# Altium footprint library halfgelijders.PcbLib: 22 footprints (part 1 of 2)
Each footprint in its own frame and in the unit in brackets; x right, y up, seen from the top. Pads: shape width x height; smd on the part's side, far side on the other; paste and mask are expansions set on the pad; w line width, h text height; cw(c..) or ccw(c..) is an arc to the next point about the centre after c.
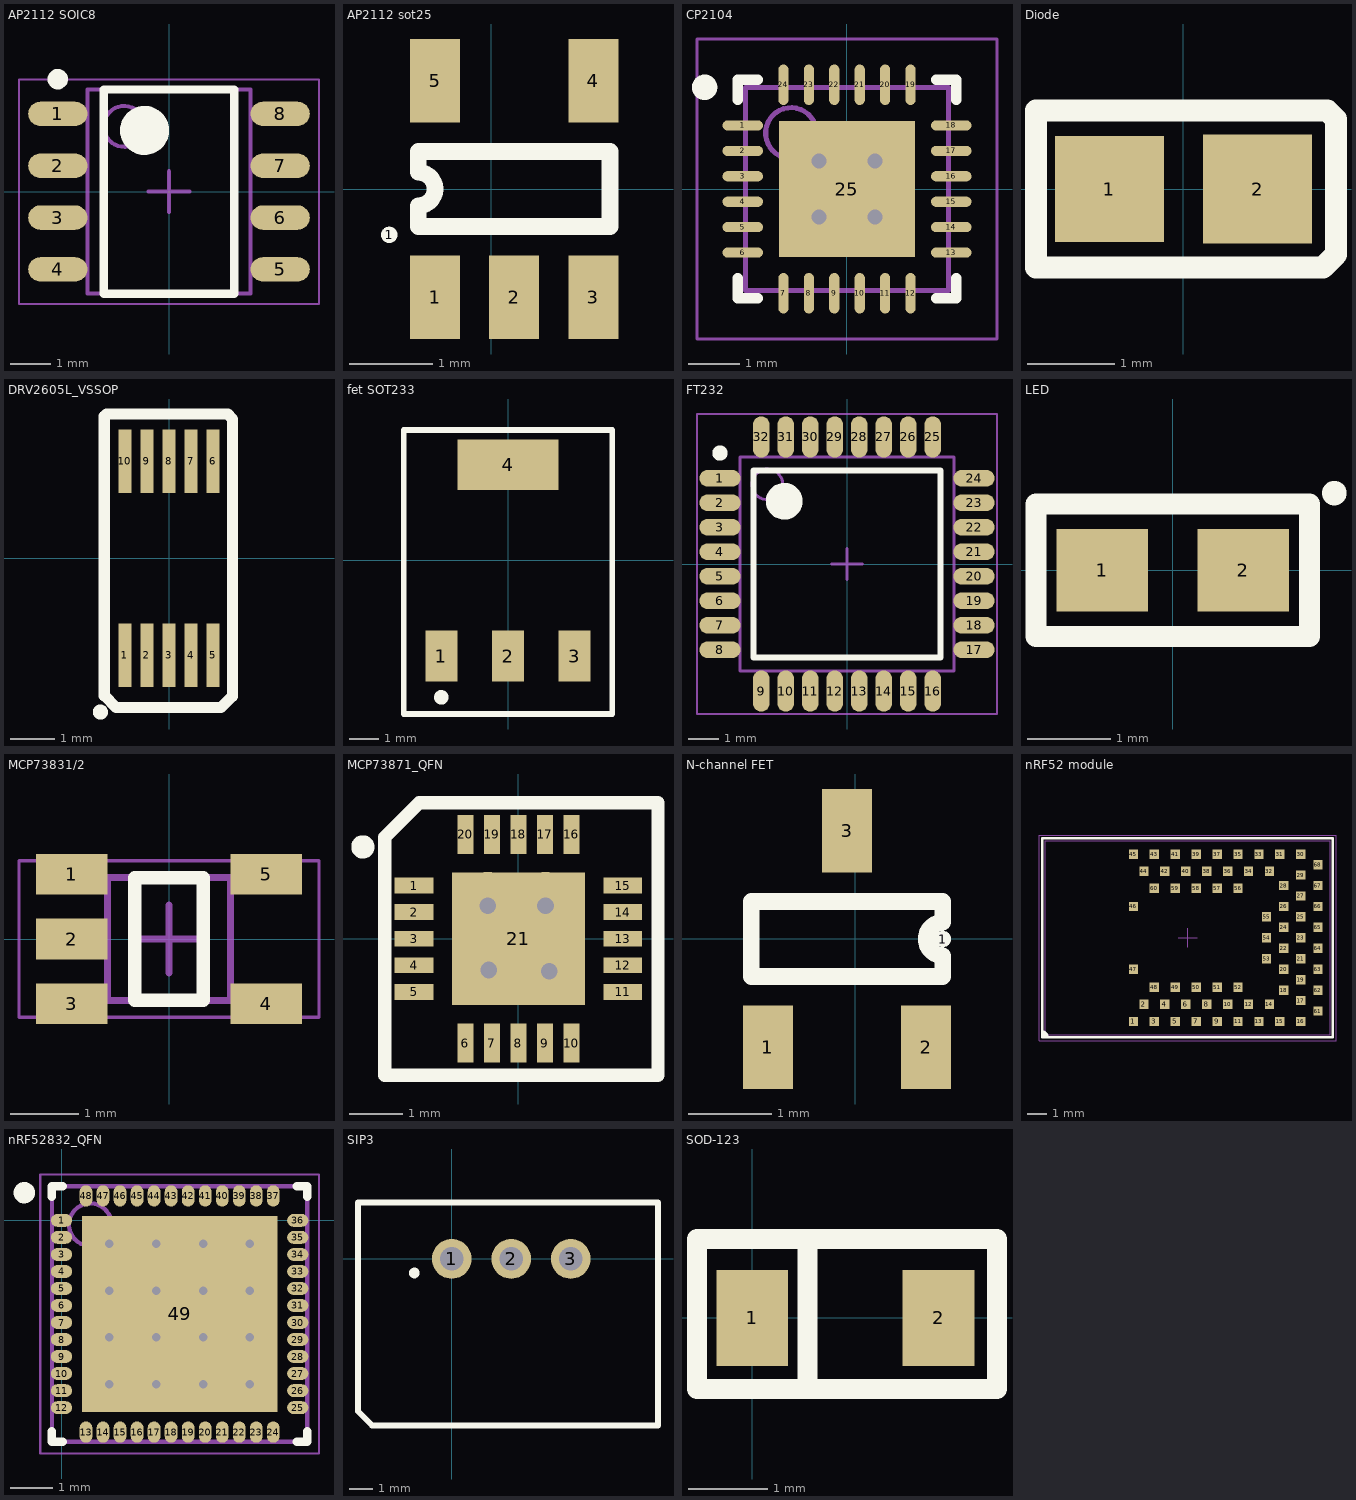
[diagram p0: the footprints below, top view; thin cyan lines are the x and y axes]

## AP2112 SOIC8 [mm] "AP2112 SOIC8"
height 1.5
pads (8):
  oval 1.45x0.6 smd: 1(-2.725,1.905) 2(-2.725,0.635) 3(-2.725,-0.635) 4(-2.725,-1.905) 5(2.725,-1.905) 6(2.725,-0.635) 7(2.725,0.635) 8(2.725,1.905)
Top Overlay:
  circle w0.6: c-0.6,1.5 r0.3
  circle w0.25: c-2.725,2.755 r0.125
  lines w0.2: -1.6,-2.5 1.6,-2.5 1.6,2.5 -1.6,2.5 -1.6,-2.5
Mechanical 13:
  circle w0.1: c-1.1,1.6 r0.5
  lines w0.1: -2,-2.5 2,-2.5 2,2.5 -2,2.5 -2,-2.5
Mechanical 15:
  lines w0.05: -3.675,-2.75 3.675,-2.75 3.675,2.75 -3.675,2.75 -3.675,-2.75
  lines w0.1: -0.5,0 0.5,0 ; 0,-0.5 0,0.5
3D body "SOIC8.SLDPRT": height 1.75, standoff -0.01, extent -3.219,-2.52 2.98,2.48

## AP2112 sot25 [mm]
pads (6):
  round 0.2 on Top Overlay: 1(-1.225,-0.55)
  rect 0.6x1 smd: 1(-0.675,-1.3) 2(0.275,-1.3) 3(1.225,-1.3) 4(1.225,1.3) 5(-0.675,1.3)
Top Overlay:
  lines w0.2: -0.875,-0.45 -0.875,-0.2 ccw(c-0.875,0) -0.875,0.2 -0.875,0.45 1.425,0.45 1.425,-0.45 -0.875,-0.45
3D body "SOT235.step": height 1, standoff 0, extent -1.185,-1.17 1.735,1.17

## CP2104 [mm] "QFN24"
pads (25):
  oval 0.8x0.2 smd: 1(-2.05,1.25) 2(-2.05,0.75) 3(-2.05,0.25) 4(-2.05,-0.25) 5(-2.05,-0.75) 6(-2.05,-1.25) 13(2.05,-1.25) 14(2.05,-0.75) 15(2.05,-0.25) 16(2.05,0.25) 17(2.05,0.75) 18(2.05,1.25)
  oval 0.2x0.8 smd: 7(-1.25,-2.05) 8(-0.75,-2.05) 9(-0.25,-2.05) 10(0.25,-2.05) 11(0.75,-2.05) 12(1.25,-2.05) 19(1.25,2.05) 20(0.75,2.05) 21(0.25,2.05) 22(-0.25,2.05) 23(-0.75,2.05) 24(-1.25,2.05)
  rect 2.68x2.68 smd: 25(0,0)
via 0.55,-0.55 diameter 0.6 hole 0.3
via -0.55,-0.55 diameter 0.6 hole 0.3
via 0.55,0.55 diameter 0.6 hole 0.3
via -0.55,0.55 diameter 0.6 hole 0.3
Top Overlay:
  circle w0.25: c-2.8,2 r0.125
  lines w0.2: -2.15,-1.75 -2.15,-2.15 -1.75,-2.15 ; -2.15,1.75 -2.15,2.15 -1.75,2.15 ; 1.75,-2.15 2.15,-2.15 2.15,-1.75 ; 1.75,2.15 2.15,2.15 2.15,1.75
Mechanical 13:
  circle w0.1: c-1.1,1.1 r0.5
  lines w0.1: -2,-2 2,-2 2,2 -2,2 -2,-2
Mechanical 15:
  lines w0.05: -2.95,-2.95 2.95,-2.95 2.95,2.95 -2.95,2.95 -2.95,-2.95
  lines w0.1: -0.5,0 0.5,0 ; 0,-0.5 0,0.5
3D body "QFN-24 .step": height 1, standoff 0, extent -1.98,-1.99 2.02,2.01

## Diode [mm]
pads (2):
  rect 1.25x1.22 smd: 1(-0.85,0)
  rect 1.25x1.25 smd: 2(0.85,0)
Top Overlay:
  lines w0.254: -1.69,-0.9 1.6,-0.9 1.75,-0.75 1.75,0.8 1.65,0.9 -1.69,0.9 -1.69,-0.9

## DRV2605L_VSSOP [mm] "VSSOP"
pads (10):
  rect 0.3x1.45 smd: 1(-1,-2.2) 2(-0.5,-2.2) 3(0,-2.2) 4(0.5,-2.2) 5(1,-2.2) 6(1,2.2) 7(0.5,2.2) 8(0,2.2) 9(-0.5,2.2) 10(-1,2.2)
Top Overlay:
  circle w0.254: c-1.558,-3.489 r0.045
  lines w0.254: -1.468,-3.119 -1.468,-2.629 -1.468,3.221 -1.418,3.271 1.332,3.271 1.442,3.161 1.442,-3.129 1.182,-3.389 -1.198,-3.389 -1.468,-3.119
3D body "User Library-DGS0010A.STEP": height 1.1, standoff 0, extent -1.488,-2.351 1.512,2.574

## fet SOT233 [mm]
pads (4):
  rect 1.1x1.75 smd: 1(-2.3,-3.3) 2(0,-3.3) 3(2.3,-3.3)
  rect 3.5x1.75 smd: 4(0,3.3)
Top Overlay:
  circle w0.25: c-2.3,-4.725 r0.125
  lines w0.2: -3.6,-5.3 3.6,-5.3 3.6,4.5 -3.6,4.5 -3.6,-5.3
3D body "SOT-223-2.STEP": height 1.85, standoff -0.05, extent -3.35,-3.704 3.35,3.5

## FT232 [mm]
pads (32):
  oval 1.35x0.55 smd: 1(-4.15,2.8) 2(-4.15,2) 3(-4.15,1.2) 4(-4.15,0.4) 5(-4.15,-0.4) 6(-4.15,-1.2) 7(-4.15,-2) 8(-4.15,-2.8) 17(4.15,-2.8) 18(4.15,-2) 19(4.15,-1.2) 20(4.15,-0.4) 21(4.15,0.4) 22(4.15,1.2) 23(4.15,2) 24(4.15,2.8)
  oval 0.55x1.35 smd: 9(-2.8,-4.15) 10(-2,-4.15) 11(-1.2,-4.15) 12(-0.4,-4.15) 13(0.4,-4.15) 14(1.2,-4.15) 15(2,-4.15) 16(2.8,-4.15) 25(2.8,4.15) 26(2,4.15) 27(1.2,4.15) 28(0.4,4.15) 29(-0.4,4.15) 30(-1.2,4.15) 31(-2,4.15) 32(-2.8,4.15)
Top Overlay:
  circle w0.25: c-4.15,3.625 r0.125
  circle w0.6: c-2.05,2.05 r0.3
  lines w0.2: -3.05,-3.05 -3.05,3.05 3.05,3.05 3.05,-3.05 -3.05,-3.05
Mechanical 13:
  circle w0.1: c-2.6,2.6 r0.5
  lines w0.1: -3.5,-3.5 -3.5,3.5 3.5,3.5 3.5,-3.5 -3.5,-3.5
Mechanical 15:
  lines w0.05: -4.9,-4.9 -4.9,4.9 4.9,4.9 4.9,-4.9 -4.9,-4.9
  lines w0.1: -0.5,0 0.5,0 ; 0,-0.5 0,0.5
3D body: height 1.2, standoff 0, extent -3.5,-3.5 3.5,3.5

## LED [mm]
pads (2):
  rect 1.1x1 smd: 1(-0.85,0) 2(0.85,0)
Top Overlay:
  circle w0.254: c1.947,0.931 r0.02
  lines w0.254: -1.65,-0.5 -1.65,-0.8 ; -1.65,-0.8 -1.65,0.8 1.65,0.8 1.65,-0.6 1.65,-0.8 -1.65,-0.8
3D body "User Library-LED_0603_WS.STEP": height 0.6, standoff 0, extent -0.8,-0.4 0.8,0.4

## LGA 16 [mm]

## MCP73831/2 [mm] "MCP73831/2 ) sot23-5"
height 1.3
pads (5):
  rect 1.05x0.6 smd: 1(-1.425,0.95) 2(-1.425,0) 3(-1.425,-0.95) 4(1.425,-0.95) 5(1.425,0.95)
Top Overlay:
  lines w0.2: -0.5,-0.9 -0.5,0.9 0.5,0.9 0.5,-0.9 -0.5,-0.9
Mechanical 13:
  lines w0.1: -0.9,-0.9 0.9,-0.9 0.9,0.9 -0.9,0.9 -0.9,-0.9
Mechanical 15:
  lines w0.05: -2.2,-1.15 2.2,-1.15 2.2,1.15 -2.2,1.15 -2.2,-1.15
  lines w0.1: -0.5,0 0.5,0 ; 0,-0.5 0,0.5
3D body "SOT23-5-2.step": height 1.45, standoff 0, extent -1.6,-1.45 1.2,1.45

## MCP73871_QFN [mm]
pads (21):
  rect 0.73x0.3 smd: 1(-1.965,1) 2(-1.965,0.5) 3(-1.965,0) 4(-1.965,-0.5) 5(-1.965,-1) 11(1.965,-1) 12(1.965,-0.5) 13(1.965,0) 14(1.965,0.5) 15(1.965,1)
  rect 0.3x0.73 smd: 6(-1,-1.965) 7(-0.5,-1.965) 8(0,-1.965) 9(0.5,-1.965) 10(1,-1.965) 16(1,1.965) 17(0.5,1.965) 18(0,1.965) 19(-0.5,1.965) 20(-1,1.965)
  rect 2.5x2.5 smd: 21(0,0)
via 0.51,0.62 diameter 1.27 hole 0.315
via -0.56,-0.59 diameter 1.27 hole 0.315
via 0.58,-0.61 diameter 1.27 hole 0.315
via -0.58,0.62 diameter 1.27 hole 0.315
Top Overlay:
  circle w0.254: c-2.93,1.73 r0.092
  lines w0.254: -2.52,-2.57 2.63,-2.57 2.63,2.56 -1.87,2.56 -2.52,1.91 -2.52,-0.7 -2.52,-2.57
3D body "User Library-QFN4x4_20pins.step": height 0.8, standoff 0, extent -2.02,-2.02 2.02,2.02

## N-channel FET [mm] "1=gate 2=source 3=drain"
pads (4):
  rect 0.6x1 smd: 1(-1.05,-1.3) 2(0.85,-1.3) 3(-0.1,1.3)
  round 0.2 on Top Overlay: 1(1.05,0)
Top Overlay:
  lines w0.2: -1.25,-0.45 1.05,-0.45 1.05,-0.2 cw(c1.05,0) 1.05,0.2 1.05,0.45 -1.25,0.45 -1.25,-0.45
3D body "SOT23-3.step": height 1.3, standoff 0, extent -1.55,-1.4 1.35,1.4

## nRF52 module [mm]
pads (68):
  rect 0.49x0.49 smd: 1(33.08,-20.29) 2(33.63,-19.39) 3(34.18,-20.29) 4(34.73,-19.39) 5(35.28,-20.29) 6(35.83,-19.39) 7(36.38,-20.29) 8(36.93,-19.39) 9(37.48,-20.29) 10(38.03,-19.39) 11(38.58,-20.29) 12(39.13,-19.39) 13(39.68,-20.29) 14(40.23,-19.39) 15(40.78,-20.29) 16(41.88,-20.29) 17(41.88,-19.19) 18(40.98,-18.64) 19(41.88,-18.09) 20(40.98,-17.54) 21(41.88,-16.99) 22(40.98,-16.44) 23(41.88,-15.89) 24(40.98,-15.34) 25(41.88,-14.79) 26(40.98,-14.24) 27(41.88,-13.69) 28(40.98,-13.14) 29(41.88,-12.59) 30(41.88,-11.49) 31(40.78,-11.49) 32(40.23,-12.39) 33(39.68,-11.49) 34(39.13,-12.39) 35(38.58,-11.49) 36(38.03,-12.39) 37(37.48,-11.49) 38(36.93,-12.39) 39(36.38,-11.49) 40(35.83,-12.39) 41(35.28,-11.49) 42(34.73,-12.39) 43(34.18,-11.49) 44(33.63,-12.39) 45(33.08,-11.49) 46(33.08,-14.24) 47(33.08,-17.54) 48(34.18,-18.49) 49(35.28,-18.49) 50(36.38,-18.49) 51(37.48,-18.49) 52(38.58,-18.49) 53(40.08,-16.99) 54(40.08,-15.89) 55(40.08,-14.79) 56(38.58,-13.29) 57(37.48,-13.29) 58(36.38,-13.29) 59(35.28,-13.29) 60(34.18,-13.29) 61(42.78,-19.74) 62(42.78,-18.64) 63(42.78,-17.54) 64(42.78,-16.44) 65(42.78,-15.34) 66(42.78,-14.24) 67(42.78,-13.14) 68(42.78,-12.04)
Top Overlay:
  lines w0.127: 28.28,-21.115 28.28,-10.665 43.555,-10.665 43.555,-21.115 28.28,-21.115
  lines w0.128: 28.28,-20.816 cw(c28.255,-21.115) 28.555,-21.115 ; 28.28,-20.94 cw(c28.28,-21.09) 28.43,-21.09 28.28,-20.94
Mechanical 11:
  text ".Designator" at 33.455,-16.565 h1.5
Mechanical 13:
  lines w0.05: 28.43,-20.99 28.43,-10.79 43.43,-10.79 43.43,-20.99 28.43,-20.99
Mechanical 15:
  lines w0.05: 35.43,-15.89 36.43,-15.89 ; 35.93,-16.39 35.93,-15.39 ; 28.13,-21.29 43.73,-21.29 43.73,-10.49 28.13,-10.49 28.13,-21.29
Multi-Layer:
  pour cut-out: 32.83,-21.29 32.83,-10.49 28.43,-10.49 28.43,-21.29
3D body "310-00090_v1_svn18804.STEP": height 1.73, standoff 0, extent 28.4,-21 43.4,-10.8

## nRF52832_QFN [mm] "nRF52832_QFN"
height 0.9
pads (49):
  oval 0.5x0.3 smd: 1(0,0) 2(0,-0.4) 3(0,-0.8) 4(0,-1.2) 5(0,-1.6) 6(0,-2) 7(0,-2.4) 8(0,-2.8) 9(0,-3.2) 10(0,-3.6) 11(0,-4) 12(0,-4.4) 25(5.55,-4.4) 26(5.55,-4) 27(5.55,-3.6) 28(5.55,-3.2) 29(5.55,-2.8) 30(5.55,-2.4) 31(5.55,-2) 32(5.55,-1.6) 33(5.55,-1.2) 34(5.55,-0.8) 35(5.55,-0.4) 36(5.55,0)
  oval 0.3x0.5 smd: 13(0.575,-4.975) 14(0.975,-4.975) 15(1.375,-4.975) 16(1.775,-4.975) 17(2.175,-4.975) 18(2.575,-4.975) 19(2.975,-4.975) 20(3.375,-4.975) 21(3.775,-4.975) 22(4.175,-4.975) 23(4.575,-4.975) 24(4.975,-4.975) 37(4.975,0.575) 38(4.575,0.575) 39(4.175,0.575) 40(3.775,0.575) 41(3.375,0.575) 42(2.975,0.575) 43(2.575,0.575) 44(2.175,0.575) 45(1.775,0.575) 46(1.375,0.575) 47(0.975,0.575) 48(0.575,0.575)
  rect 4.6x4.6 smd: 49(2.775,-2.2)
via 1.125,-0.55 diameter 0.5 hole 0.2
via 2.225,-0.55 diameter 0.5 hole 0.2
via 3.325,-0.55 diameter 0.5 hole 0.2
via 4.425,-0.55 diameter 0.5 hole 0.2
via 1.125,-1.65 diameter 0.5 hole 0.2
via 2.225,-1.65 diameter 0.5 hole 0.2
via 3.325,-1.65 diameter 0.5 hole 0.2
via 4.425,-1.65 diameter 0.5 hole 0.2
via 1.125,-2.75 diameter 0.5 hole 0.2
via 2.225,-2.75 diameter 0.5 hole 0.2
via 3.325,-2.75 diameter 0.5 hole 0.2
via 4.425,-2.75 diameter 0.5 hole 0.2
via 1.125,-3.85 diameter 0.5 hole 0.2
via 2.225,-3.85 diameter 0.5 hole 0.2
via 3.325,-3.85 diameter 0.5 hole 0.2
via 4.425,-3.85 diameter 0.5 hole 0.2
Top Overlay:
  circle w0.25: c-0.875,0.65 r0.125
  lines w0.2: -0.225,-4.95 -0.225,-5.2 0.025,-5.2 ; -0.225,0.55 -0.225,0.8 0.025,0.8 ; 5.525,-5.2 5.775,-5.2 5.775,-4.95 ; 5.525,0.8 5.775,0.8 5.775,0.55
Mechanical 13:
  circle w0.1: c0.675,-0.1 r0.5
  lines w0.1: -0.225,-5.2 -0.225,0.8 5.775,0.8 5.775,-5.2 -0.225,-5.2
Mechanical 15:
  lines w0.05: -0.5,-5.475 -0.5,1.075 6.05,1.075 6.05,-5.475 -0.5,-5.475
  lines w0.1: 2.275,-2.2 3.275,-2.2 ; 2.775,-2.7 2.775,-1.7
3D body: height 0.9, standoff 0.05, extent -0.2,-5.3 5.8,0.7

## SIP3 [mm] "recom psu"
pads (3):
  round 1.7 hole 1: 1(0,0) 2(2.54,0) 3(5.08,0)
Top Overlay:
  circle w0.254: c-1.6,-0.6 r0.1
  lines w0.254: -4,-6.5 -4,2.4 8.8,2.4 8.8,-7.1 -3.4,-7.1 -4,-6.5
3D body "R-78E-1.0.step": height 9.9, standoff -4.6, extent -3.3,-6.55 8.3,1.95

## SOD-123 [mm]
pads (2):
  rect 0.91x1.22 smd: 1(0,0) 2(2.36,0)
Top Overlay:
  lines w0.254: 0.7,-0.9 0.7,1 ; -0.7,-0.9 -0.7,0.3 -0.7,1 3.1,1 3.1,-0.9 -0.7,-0.9
3D body "SOD-123.step": height 1.35, standoff 0, extent -0.65,-0.975 3.05,0.575